# EAGLE library part E24RG12432LW2M300-N (library dsantoro-misc)
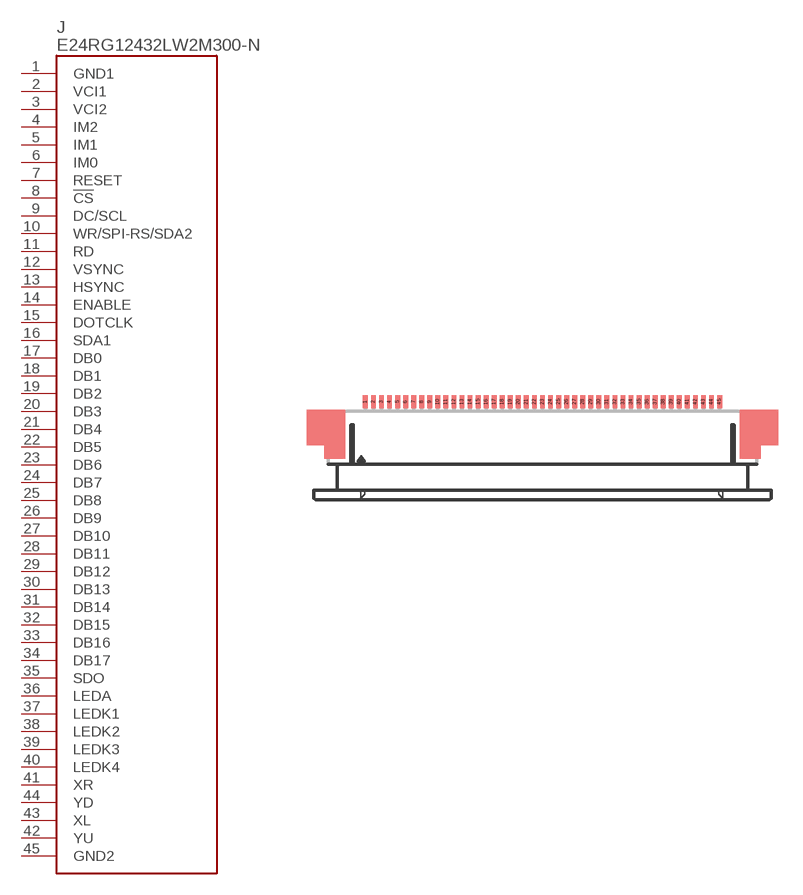
[diagram p2: symbol with the pads of E24RG12432LW2M300-N; footprint E24RG12432LW2M300-N]

Designator prefix J

## E24RG12432LW2M300-N  [E24RG12432LW2M300-N]
1  GND1  pwr
2  VCI1  pwr
3  VCI2  pwr
4  IM2  in
5  IM1  in
6  IM0  in
7  RESET  in
8  !CS  in
9  DC/SCL  in
10  WR/SPI-RS/SDA2  in
11  RD  in
12  VSYNC  in
13  HSYNC  in
14  ENABLE  in
15  DOTCLK  in
16  SDA1  in
17  DB0
18  DB1
19  DB2
20  DB3
21  DB4
22  DB5
23  DB6
24  DB7
25  DB8
26  DB9
27  DB10
28  DB11
29  DB12
30  DB13
31  DB14
32  DB15
33  DB16
34  DB17
35  SDO  out
36  LEDA  pas
37  LEDK1  pas
38  LEDK2  pas
39  LEDK3  pas
40  LEDK4  pas
41  XR
42  YU
43  XL
44  YD
45  GND2  pwr

## Footprint E24RG12432LW2M300-N (pad centres in mm)
FFC/FPC-to-Board 0.50mm (.020") SMT Top Contact Right Angle, ZIF, Style Receptacle 52745 / 52435 Source: http://www.molex.com/product/ffc/52745.html
smd 0.3 x 0.8: 1 -7.25,2.5; 2 -6.75,2.5; 3 -6.25,2.5; 4 -5.75,2.5; 5 -5.25,2.5; 6 -4.75,2.5; 7 -4.25,2.5; 8 -3.75,2.5; 9 -3.25,2.5; 10 -2.75,2.5; 11 -2.25,2.5; 12 -1.75,2.5; 13 -1.25,2.5; 14 -0.75,2.5; 15 -0.25,2.5; 16 0.25,2.5; 17 0.75,2.5; 18 1.25,2.5; 19 1.75,2.5; 20 2.25,2.5; 21 2.75,2.5; 22 3.25,2.5; 23 3.75,2.5; 24 4.25,2.5; 25 4.75,2.5; 26 5.25,2.5; 27 5.75,2.5; 28 6.25,2.5; 29 6.75,2.5; 30 7.25,2.5; 31 7.75,2.5; 32 8.25,2.5; 33 8.75,2.5; 34 9.25,2.5; 35 9.75,2.5; 36 10.25,2.5; 37 10.75,2.5; 38 11.25,2.5; 39 11.75,2.5; 40 12.25,2.5; 41 12.75,2.5; 42 13.25,2.5; 43 13.75,2.5; 44 14.25,2.5; 45 14.75,2.5